# EAGLE library part 691330300012 (library Wurth_Elektronik_Electromechanic_Terminal_Blocks_Connectors_rev16b)
WR-TBL Serie 3303 – 3.81mm Close Vertical Dual Row PCB Header With Flanges, 12 Pins=>Code : Con_TBL_Pluggable_3.81_PCB_THT_Double_691330300012 <http://katalog.we-online.de/media/images/eican/Con_TBL_Pluggable_3.81_PCB_THT_Double_6913303000xx_pf2.jpg> Details see: http://katalog.we-online.de/en/em/691_330_300_0xx Created 2014-06-19, Karrer Zheng 2014 (C) Würth Elektronik
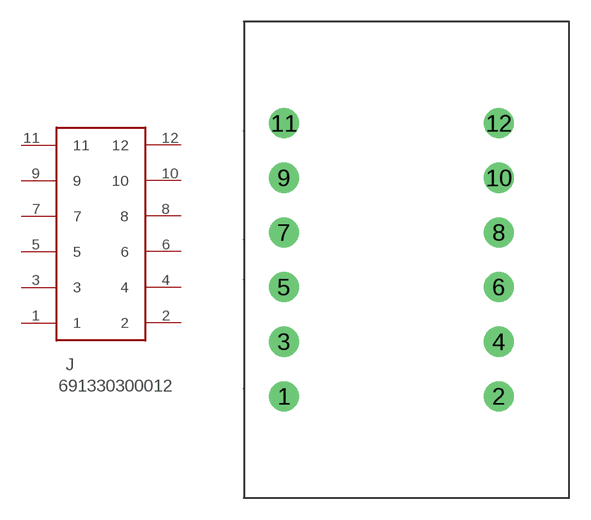
[diagram p398: symbol with the pads of 691330300012; footprint 691330300012]

Designator prefix J

## 691330300012  [691330300012]
1  1  pas
2  2  pas
3  3  pas
4  4  pas
5  5  pas
6  6  pas
7  7  pas
8  8  pas
9  9  pas
10  10  pas
11  11  pas
12  12  pas

## Footprint 691330300012 (pad centres in mm)
WR-TBL Serie 3303 – 3.81mm Close Vertical Dual Row PCB Header With Flanges, 12 Pins
drill 1.4: 1 0,0; 2 15,0; 3 0,3.81; 4 15,3.81; 5 0,7.62; 6 15,7.62; 7 0,11.43; 8 15,11.43; 9 0,15.24; 10 15,15.24; 11 0,19.05; 12 15,19.05